# Altium integrated library WS-RPTL_rev15a.intlib: 1 symbol
Pins are listed as number, name and electrical type; pins without a type are passive.

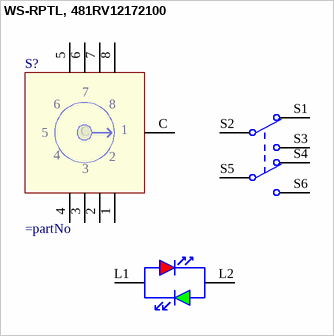
[diagram p0: symbol WS-RPTL, 481RV12172100]

## WS-RPTL, 481RV12172100
designator S?
WS-RPTL 20x20 mm illuminated THT Rotary Push button Switch; Manufacturer: Wurth Elektronik; Part No.: 481RV12172100; ComponentLink1 Description: Manufacturer; ComponentLink2 Description: Datasheet; Created Date: Dec.2015; ComponentLink1URL: http://www.we-online.com; ComponentLink2URL: http://katalog.we-online.de/em/datasheet/481RV12172100.pdf; Created by: Baojun Chen
footprint 481RV12172100 (15x15mm vertical center type, THT, height 19.5mm, 12*12mm actuator, SPST, red/green Bi-color LED, with boss design, Tray)
pins: 1, 2, 3, 4, 5, 6, 7, 8, C, L1, L2, S1, S2, S3, S4, S5, S6